# EAGLE library part SN7407D (library IC & Transistor)
SMD Hex Buffer SN7407D
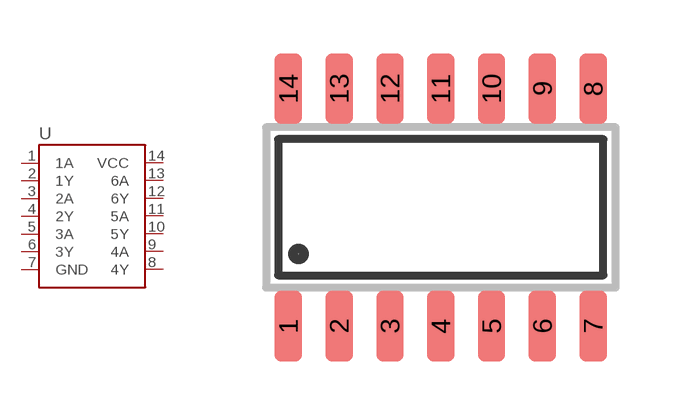
[diagram p53: symbol with the pads of SOIC-14N; footprint SOIC-14N]

Designator prefix -

## SN7407D_(SOIC-14N) (CYTRON-PC: S-IC-SN7407D-SO14; DESC: S Hex Buffer SN7407D SO14; MF: TEXAS INSTRUMENTS; MPN: SN74LS07DR)  [SOIC-14N]
1  1A
2  1Y
3  2A
4  2Y
5  3A
6  3Y
7  GND  pwr
8  4Y
9  4A
10  5Y
11  5A
12  6Y
13  6A
14  VCC  pwr

## Footprint SOIC-14N (pad centres in mm)
Small Outline Integrated Circuit (SOIC) Narrow (JEDEC) SOIC Package Size: 8.65 x 3.90mm Lead Pitch: 1.27mm Created by: Idris Modified by: Wai Weng 1. Changed the orientation.
smd 0.686 x 1.778: 1 -3.81,-2.972; 2 -2.54,-2.972; 3 -1.27,-2.972; 4 0,-2.972; 5 1.27,-2.972; 6 2.54,-2.972; 7 3.81,-2.972; 8 3.81,2.972; 9 2.54,2.972; 10 1.27,2.972; 11 0,2.972; 12 -1.27,2.972; 13 -2.54,2.972; 14 -3.81,2.972